# Altium footprint library ESP32WROVEREN8R8.PcbLib: 1 footprints
Each footprint in its own frame and in the unit in brackets; x right, y up, seen from the top. Pads: shape width x height; smd on the part's side, far side on the other; paste and mask are expansions set on the pad; w line width, h text height; cw(c..) or ccw(c..) is an arc to the next point about the centre after c.
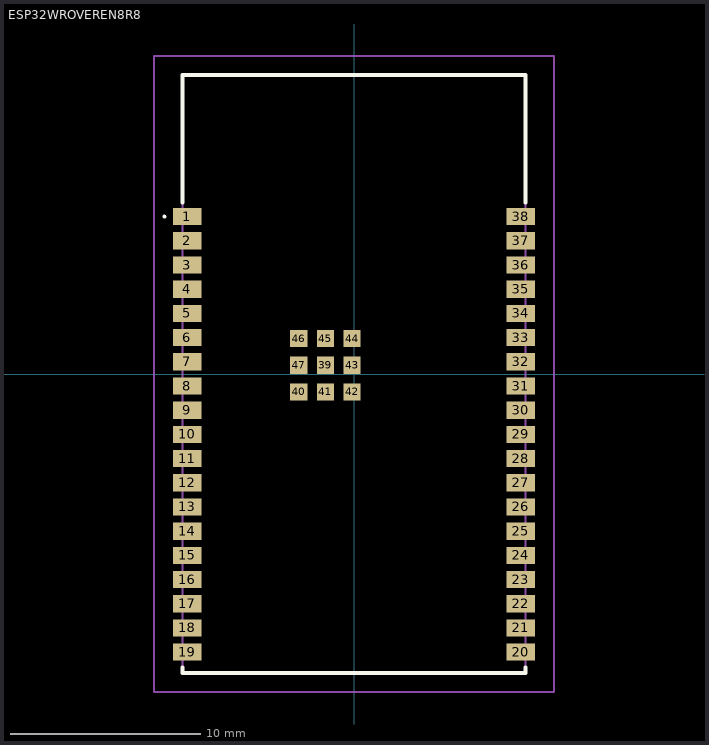
[diagram p0: the footprint, top view; thin cyan lines are the x and y axes]

## ESP32WROVEREN8R8 [mm]
pads (47):
  rect 1.5x0.9 smd: 1(-8.75,8.26) 2(-8.75,6.99) 3(-8.75,5.72) 4(-8.75,4.45) 5(-8.75,3.18) 6(-8.75,1.91) 7(-8.75,0.64) 8(-8.75,-0.63) 9(-8.75,-1.9) 10(-8.75,-3.17) 11(-8.75,-4.44) 12(-8.75,-5.71) 13(-8.75,-6.98) 14(-8.75,-8.25) 15(-8.75,-9.52) 16(-8.75,-10.79) 17(-8.75,-12.06) 18(-8.75,-13.33) 19(-8.75,-14.6) 20(8.75,-14.6) 21(8.75,-13.33) 22(8.75,-12.06) 23(8.75,-10.79) 24(8.75,-9.52) 25(8.75,-8.25) 26(8.75,-6.98) 27(8.75,-5.71) 28(8.75,-4.44) 29(8.75,-3.17) 30(8.75,-1.9) 31(8.75,-0.63) 32(8.75,0.64) 33(8.75,1.91) 34(8.75,3.18) 35(8.75,4.45) 36(8.75,5.72) 37(8.75,6.99) 38(8.75,8.26)
  rect 0.9x0.9 smd: 39(-1.5,0.46) 40(-2.9,-0.94) 41(-1.5,-0.94) 42(-0.1,-0.94) 43(-0.1,0.46) 44(-0.1,1.86) 45(-1.5,1.86) 46(-2.9,1.86) 47(-2.9,0.46)
Top Overlay:
  lines w0.1: -10,8.26 cw(c-9.95,8.26) -9.9,8.26 cw(c-9.95,8.26) -10,8.26
  lines w0.2: -9,-15.4 -9,-15.7 9,-15.7 9,-15.4 ; -9,9 -9,15.7 9,15.7 9,9
Mechanical 15:
  lines w0.1: -9,-15.7 -9,15.7 9,15.7 9,-15.7 -9,-15.7
Mechanical 20:
  lines w0.1: -10.5,-16.7 -10.5,16.7 10.5,16.7 10.5,-16.7 -10.5,-16.7
3D body "ESP32-WROVER-E-N8R8.stp": height 3.45, standoff 0, extent -9.042,-15.697 8.958,15.703